# Altium schematic symbol library FNLINK 6188E-UF.Schlib: 1 symbol
Pins are listed as number, name and electrical type; pins without a type are passive.

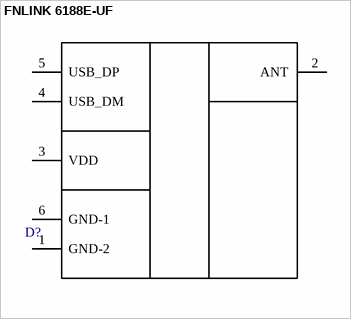
[diagram p0: symbol FNLINK 6188E-UF]

## FNLINK 6188E-UF
designator D?
pins: 1 GND-2, 2 ANT, 3 VDD, 4 USB_DM, 5 USB_DP, 6 GND-1